# Altium footprint library CAPC1709X100N.PcbLib: 1 footprints
Each footprint in its own frame and in the unit in brackets; x right, y up, seen from the top. Pads: shape width x height; smd on the part's side, far side on the other; paste and mask are expansions set on the pad; w line width, h text height; cw(c..) or ccw(c..) is an arc to the next point about the centre after c.
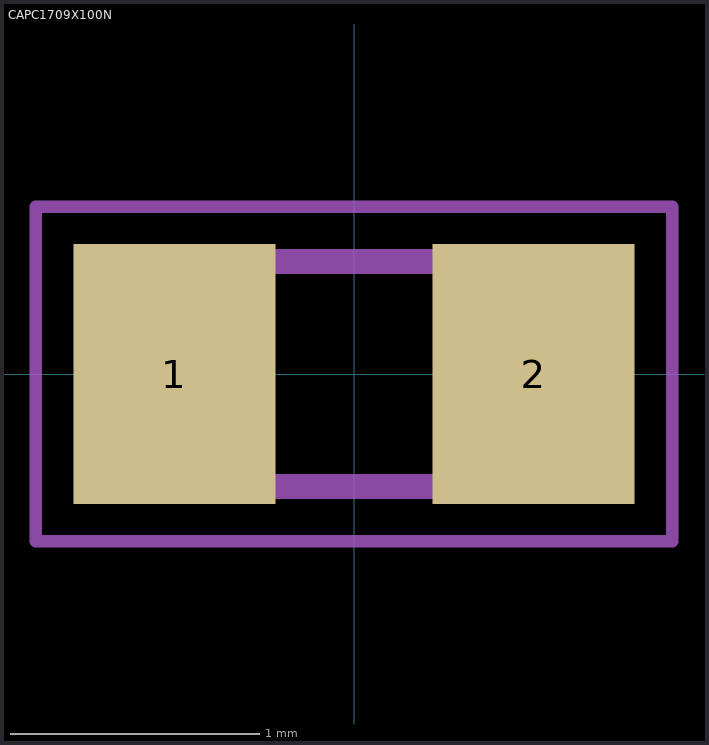
[diagram p0: the footprint, top view; thin cyan lines are the x and y axes]

## CAPC1709X100N [mm]
pads (2):
  rect 0.81x1.04 smd: 1(-0.72,0) 2(0.72,0)
Mechanical 15:
  lines w0.1: -0.85,-0.45 0.85,-0.45 0.85,0.45 -0.85,0.45 -0.85,-0.45
Mechanical 20:
  lines w0.05: -1.275,-0.67 1.275,-0.67 1.275,0.67 -1.275,0.67 -1.275,-0.67